# EAGLE library part ATMEGA*U2 (library atmel)
8-bit AVR Microcontroller 8/16/32 kbytes flash 512/512/1k bytes SRAM 512/512/1k bytes EEPROM USART USB 2.0
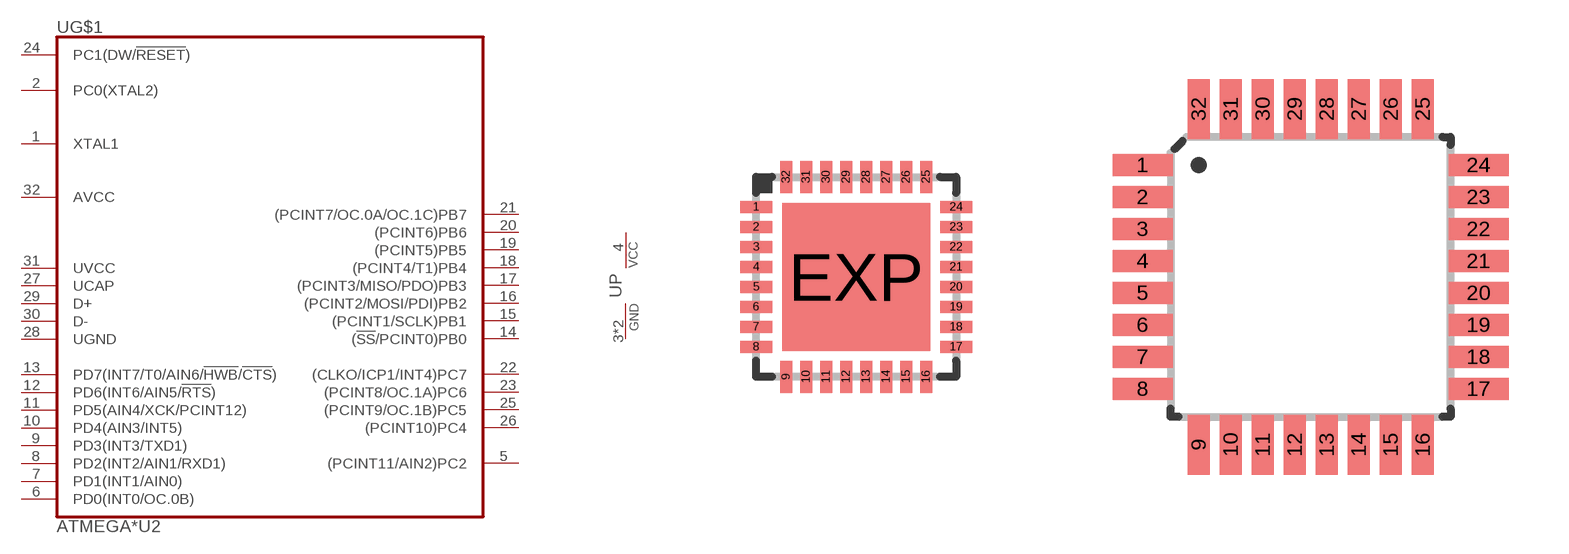
[diagram p33: symbol with the pads of QFN32_5X5_0.50; footprints QFN32_5X5_0.50, QFP32_7X7_0.80]

Designator prefix U; gates G$1=MEGA32U2 P=PWR

## ATMEGA16U2-MU, ATMEGA32U2-MU, ATMEGA8U2-MU  [QFN32_5X5_0.50]
1  G$1:XTAL1
2  G$1:PC0(XTAL2)
3  P:GND  pwr
4  P:VCC  pwr
5  G$1:(PCINT11/AIN2)PC2
6  G$1:PD0(INT0/OC.0B)
7  G$1:PD1(INT1/AIN0)
8  G$1:PD2(INT2/AIN1/RXD1)
9  G$1:PD3(INT3/TXD1)
10  G$1:PD4(AIN3/INT5)
11  G$1:PD5(AIN4/XCK/PCINT12)
12  G$1:PD6(INT6/AIN5/!RTS!)
13  G$1:PD7(INT7/T0/AIN6/!HWB!/!CTS!)
14  G$1:(!SS!/PCINT0)PB0
15  G$1:(PCINT1/SCLK)PB1
16  G$1:(PCINT2/MOSI/PDI)PB2
17  G$1:(PCINT3/MISO/PDO)PB3
18  G$1:(PCINT4/T1)PB4
19  G$1:(PCINT5)PB5
20  G$1:(PCINT6)PB6
21  G$1:(PCINT7/OC.0A/OC.1C)PB7
22  G$1:(CLKO/ICP1/INT4)PC7
23  G$1:(PCINT8/OC.1A)PC6
24  G$1:PC1(DW/!RESET!)  in
25  G$1:(PCINT9/OC.1B)PC5
26  G$1:(PCINT10)PC4
27  G$1:UCAP  pas
28  G$1:UGND  pwr
29  G$1:D+
30  G$1:D-
31  G$1:UVCC  pwr
32  G$1:AVCC  pwr
EXP  P:GND  pwr

## ATMEGA16U2-AU, ATMEGA32U2-AU, ATMEGA8U2-AU  [QFP32_7X7_0.80]
1  G$1:XTAL1
2  G$1:PC0(XTAL2)
3  P:GND  pwr
4  P:VCC  pwr
5  G$1:(PCINT11/AIN2)PC2
6  G$1:PD0(INT0/OC.0B)
7  G$1:PD1(INT1/AIN0)
8  G$1:PD2(INT2/AIN1/RXD1)
9  G$1:PD3(INT3/TXD1)
10  G$1:PD4(AIN3/INT5)
11  G$1:PD5(AIN4/XCK/PCINT12)
12  G$1:PD6(INT6/AIN5/!RTS!)
13  G$1:PD7(INT7/T0/AIN6/!HWB!/!CTS!)
14  G$1:(!SS!/PCINT0)PB0
15  G$1:(PCINT1/SCLK)PB1
16  G$1:(PCINT2/MOSI/PDI)PB2
17  G$1:(PCINT3/MISO/PDO)PB3
18  G$1:(PCINT4/T1)PB4
19  G$1:(PCINT5)PB5
20  G$1:(PCINT6)PB6
21  G$1:(PCINT7/OC.0A/OC.1C)PB7
22  G$1:(CLKO/ICP1/INT4)PC7
23  G$1:(PCINT8/OC.1A)PC6
24  G$1:PC1(DW/!RESET!)  in
25  G$1:(PCINT9/OC.1B)PC5
26  G$1:(PCINT10)PC4
27  G$1:UCAP  pas
28  G$1:UGND  pwr
29  G$1:D+
30  G$1:D-
31  G$1:UVCC  pwr
32  G$1:AVCC  pwr

## Footprint QFN32_5X5_0.50 (pad centres in mm)
32-Lead Plastic QFN, 5mm x 5mm body, 0.5mm lead pitch, exposed pad ATMEL Code: 32M1-A Micro Lead Frame package (MLF) NXP Code: SOT617
smd 0.8 x 0.3: 1 -2.5,1.75; 2 -2.5,1.25; 3 -2.5,0.75; 4 -2.5,0.25; 5 -2.5,-0.25; 6 -2.5,-0.75; 7 -2.5,-1.25; 8 -2.5,-1.75; 17 2.5,-1.75; 18 2.5,-1.25; 19 2.5,-0.75; 20 2.5,-0.25; 21 2.5,0.25; 22 2.5,0.75; 23 2.5,1.25; 24 2.5,1.75
smd 0.3 x 0.8: 9 -1.75,-2.5; 10 -1.25,-2.5; 11 -0.75,-2.5; 12 -0.25,-2.5; 13 0.25,-2.5; 14 0.75,-2.5; 15 1.25,-2.5; 16 1.75,-2.5; 25 1.75,2.5; 26 1.25,2.5; 27 0.75,2.5; 28 0.25,2.5; 29 -0.25,2.5; 30 -0.75,2.5; 31 -1.25,2.5; 32 -1.75,2.5
smd 3.7 x 3.7: EXP 0,0

## Footprint QFP32_7X7_0.80 (pad centres in mm)
Thin Plasic Quad Flat Package, 7mm x 7mm body, 0.80mm lead pitch JEDEC: MS-026 ABA ATMEL Code: 32A
smd 1.5 x 0.55: 1 -4.2,2.8; 2 -4.2,2; 3 -4.2,1.2; 4 -4.2,0.4; 5 -4.2,-0.4; 6 -4.2,-1.2; 7 -4.2,-2; 8 -4.2,-2.8; 17 4.2,-2.8; 18 4.2,-2; 19 4.2,-1.2; 20 4.2,-0.4; 21 4.2,0.4; 22 4.2,1.2; 23 4.2,2; 24 4.2,2.8
smd 0.55 x 1.5: 9 -2.8,-4.2; 10 -2,-4.2; 11 -1.2,-4.2; 12 -0.4,-4.2; 13 0.4,-4.2; 14 1.2,-4.2; 15 2,-4.2; 16 2.8,-4.2; 25 2.8,4.2; 26 2,4.2; 27 1.2,4.2; 28 0.4,4.2; 29 -0.4,4.2; 30 -1.2,4.2; 31 -2,4.2; 32 -2.8,4.2